# Altium footprint library ICs.PcbLib: 69 footprints (part 5 of 5)
Each footprint in its own frame and in the unit in brackets; x right, y up, seen from the top. Pads: shape width x height; smd on the part's side, far side on the other; paste and mask are expansions set on the pad; w line width, h text height; cw(c..) or ccw(c..) is an arc to the next point about the centre after c.
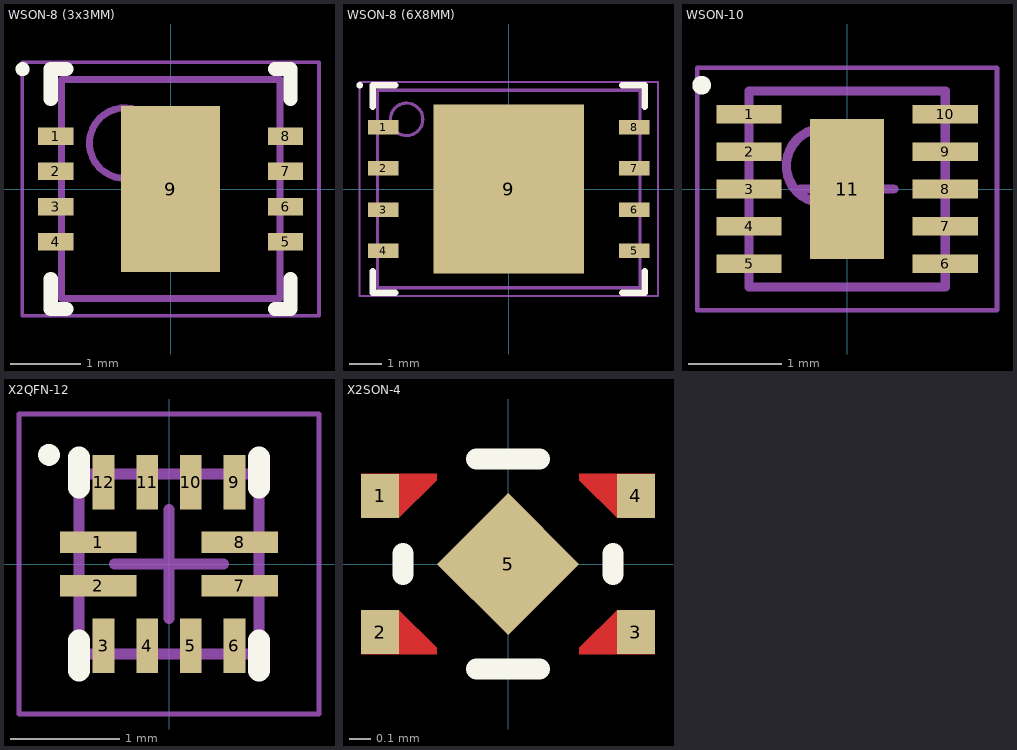
[diagram p4: the footprints below, top view; thin cyan lines are the x and y axes]

## WSON-8 (3x3MM) [mm] "SON, 8-Leads, Body 3.00x3.00mm, Pitch 0.50mm, Thermal Pad 2.35x1.40mm, IPC Medium Density"
height 0.8
pads (9):
  rect 0.5x0.25 smd: 1(-1.63,0.75) 2(-1.63,0.25) 3(-1.63,-0.25) 4(-1.63,-0.75) 5(1.63,-0.75) 6(1.63,-0.25) 7(1.63,0.25) 8(1.63,0.75)
  rect 1.4x2.35 smd: 9(0,0)
Top Overlay:
  circle w0.1: c-2.1,1.7 r0.05
  lines w0.2: -1.7,-1.275 -1.7,-1.7 -1.48,-1.7 ; -1.7,1.275 -1.7,1.7 -1.48,1.7 ; 1.48,-1.7 1.7,-1.7 1.7,-1.275 ; 1.48,1.7 1.7,1.7 1.7,1.275
Mechanical 13:
  circle w0.1: c-0.65,0.65 r0.5
  lines w0.1: -1.55,-1.55 -1.55,1.55 1.55,1.55 1.55,-1.55 -1.55,-1.55
Mechanical 15:
  lines w0.05: -2.105,-1.8 -2.105,1.8 2.105,1.8 2.105,-1.8 -2.105,-1.8
  lines w0.1: -0.5,0 0.5,0 ; 0,-0.5 0,0.5
3D body "SON50P300X80_HS-9N.step": height 0.8, standoff 0, extent -1.6,-1.55 1.6,1.55

## WSON-8 (6X8MM) [mm] "SON, 8-Leads, Body 6.00x8.00mm, Pitch 1.27mm, Thermal Pad 5.20x4.65mm, IPC Medium Density"
height 0.8
pads (9):
  rect 0.95x0.45 smd: 1(-3.87,1.905) 2(-3.87,0.635) 3(-3.87,-0.635) 4(-3.87,-1.905) 5(3.87,-1.905) 6(3.87,-0.635) 7(3.87,0.635) 8(3.87,1.905)
  rect 4.65x5.2 smd paste-2.325: 9(0,0)
Top Overlay:
  circle w0.1: c-4.6,3.2 r0.05
  lines w0.2: -4.2,-2.53 -4.2,-3.2 -3.495,-3.2 ; -4.2,2.53 -4.2,3.2 -3.495,3.2 ; 3.495,-3.2 4.2,-3.2 4.2,-2.53 ; 3.495,3.2 4.2,3.2 4.2,2.53
Top Paste:
  rectangle: 1.26,-2.5 2.22,-1.4
  rectangle: 1.26,-1.2 2.22,-0.1
  rectangle: 1.26,0.1 2.22,1.2
  rectangle: 1.26,1.4 2.22,2.5
  rectangle: 0.1,-2.5 1.06,-1.4
  rectangle: 0.1,-1.2 1.06,-0.1
  rectangle: 0.1,0.1 1.06,1.2
  rectangle: 0.1,1.4 1.06,2.5
  rectangle: -1.06,-2.5 -0.1,-1.4
  rectangle: -1.06,-1.2 -0.1,-0.1
  rectangle: -1.06,0.1 -0.1,1.2
  rectangle: -1.06,1.4 -0.1,2.5
  rectangle: -2.22,-2.5 -1.26,-1.4
  rectangle: -2.22,-1.2 -1.26,-0.1
  rectangle: -2.22,0.1 -1.26,1.2
  rectangle: -2.22,1.4 -1.26,2.5
Mechanical 13:
  circle w0.1: c-3.15,2.15 r0.5
  lines w0.1: -4.05,-3.05 4.05,-3.05 4.05,3.05 -4.05,3.05 -4.05,-3.05
Mechanical 15:
  lines w0.05: -4.605,-3.3 4.605,-3.3 4.605,3.3 -4.605,3.3 -4.605,-3.3
  lines w0.1: -0.5,0 0.5,0 ; 0,-0.5 0,0.5
3D body "SON127P800X80_HS-9N.step": height 0.8, standoff 0, extent -4.051,-3.05 4.051,3.05

## WSON-10 [mm] "SON, 10-Leads, Body 2.00x2.00mm, Pitch 0.40mm, Thermal Pad 1.50x0.79mm, IPC Medium Density"
height 0.8
pads (11):
  rect 0.7x0.2 smd: 1(-1.05,0.8) 2(-1.05,0.4) 3(-1.05,0) 4(-1.05,-0.4) 5(-1.05,-0.8) 6(1.05,-0.8) 7(1.05,-0.4) 8(1.05,0) 9(1.05,0.4) 10(1.05,0.8)
  rect 0.79x1.5 smd: 11(0,0)
Top Overlay:
  circle w0.1: c-1.557,1.112 r0.05
Mechanical 13:
  circle w0.1: c-0.25,0.25 r0.4
  lines w0.1: -1.05,-1.05 -1.05,1.05 1.05,1.05 1.05,-1.05 -1.05,-1.05
Mechanical 15:
  lines w0.05: -1.605,-1.3 -1.605,1.3 1.605,1.3 1.605,-1.3 -1.605,-1.3
  lines w0.1: -0.5,0 0.5,0 ; 0,-0.5 0,0.5
3D body: height 0.8, standoff 0.05, extent -1.05,-1.05 1.05,1.05

## X2QFN-12 [mm] "QFN, 12-Leads, Body 1.60x1.60mm, Pitch 0.40mm, IPC Medium Density"
height 0.4
pads (12):
  rect 0.7x0.2 smd: 1(-0.65,0.2) 2(-0.65,-0.2) 7(0.65,-0.2) 8(0.65,0.2)
  rect 0.2x0.5 smd: 3(-0.6,-0.75) 4(-0.2,-0.75) 5(0.2,-0.75) 6(0.6,-0.75) 9(0.6,0.75) 10(0.2,0.75) 11(-0.2,0.75) 12(-0.6,0.75)
Top Overlay:
  circle w0.1: c-1.1,1 r0.05
  lines w0.2: -0.825,-0.975 -0.825,-0.7 ; -0.825,0.7 -0.825,0.975 ; 0.825,-0.975 0.825,-0.7 ; 0.825,0.7 0.825,0.975
Mechanical 13:
  lines w0.1: -0.825,-0.825 -0.825,0.825 0.825,0.825 0.825,-0.825 -0.825,-0.825
Mechanical 15:
  lines w0.05: -1.375,-1.375 -1.375,1.375 1.375,1.375 1.375,-1.375 -1.375,-1.375
  lines w0.1: -0.5,0 0.5,0 ; 0,-0.5 0,0.5
3D body "QFN40P160X160X40-12N.step": height 0.4, standoff 0, extent -0.875,-0.875 0.875,0.875

## X2SON-4 [mm]
pads (5):
  rect 0.18x0.21 smd: 1(-0.61,0.325) 2(-0.61,-0.325) 3(0.61,-0.325) 4(0.61,0.325)
  rect 0.48x0.48 smd rot 45: 5(0,0)
Top Layer:
  region: -0.7,0.43 -0.34,0.43 -0.34,0.4 -0.52,0.22 -0.7,0.22
  region: 0.7,0.43 0.34,0.43 0.34,0.4 0.52,0.22 0.7,0.22
  region: 0.7,-0.43 0.34,-0.43 0.34,-0.4 0.52,-0.22 0.7,-0.22
  region: -0.7,-0.43 -0.34,-0.43 -0.34,-0.4 -0.52,-0.22 -0.7,-0.22
Top Overlay:
  lines w0.1: -0.5,-0.05 -0.5,0.05 ; -0.15,-0.5 0.15,-0.5 ; -0.15,0.5 0.15,0.5 ; 0.5,-0.05 0.5,0.05
3D body: height 0.4, standoff 0, extent -0.5,-0.5 0.5,0.5